# EAGLE library part SD-CONNECTOR (library Halcyon-Connectors)
Manufacturer: Amphenol Part: SD+MMC Short Connector Store: DigiKey
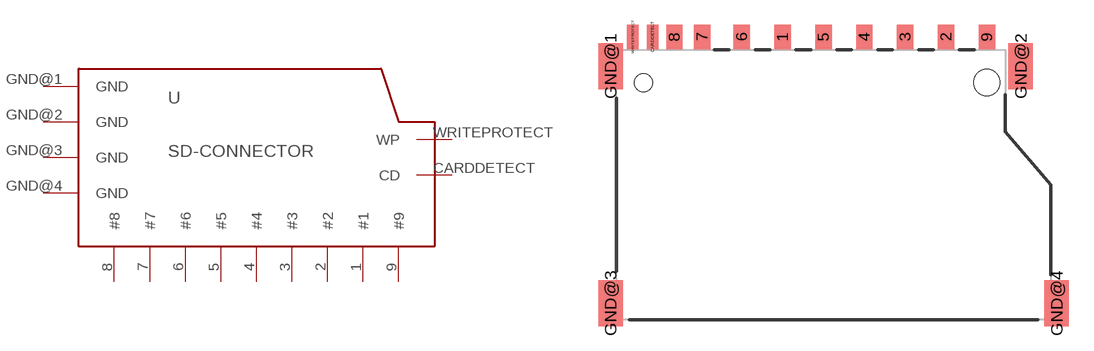
[diagram p0: symbol with the pads of SD-CONNECTOR; footprint SD-CONNECTOR]

Designator prefix -

## SD-CONNECTOR-SHORT  [SD-CONNECTOR]
1  #1
2  #2
3  #3
4  #4
5  #5
6  #6
7  #7
8  #8
9  #9
CARDDETECT  CD
GND@1  GND
GND@2  GND
GND@3  GND
GND@4  GND
WRITEPROTECT  WP

## Footprint SD-CONNECTOR (pad centres in mm)
smd 1 x 1.5: 1 -3.12,9.05; 2 6.88,9.05; 3 4.38,9.05; 4 1.88,9.05; 5 -0.62,9.05; 6 -5.62,9.05; 7 -8.04,9.05; 8 -9.74,9.05; 9 9.38,9.05
smd 0.7 x 1.5: CARDDETECT -11.08,9.05; WRITEPROTECT -12.28,9.05
smd 1.5 x 2.8: GND@1 -13.65,7.25; GND@2 11.45,7.25; GND@3 -13.65,-7.25; GND@4 13.65,-7.25
hole 1.1 at -11.62,6.25
hole 1.6 at 9.38,6.25